# EAGLE library part ADXL330 (library Clean-Kong)
ADXL330 Board From sparkfun
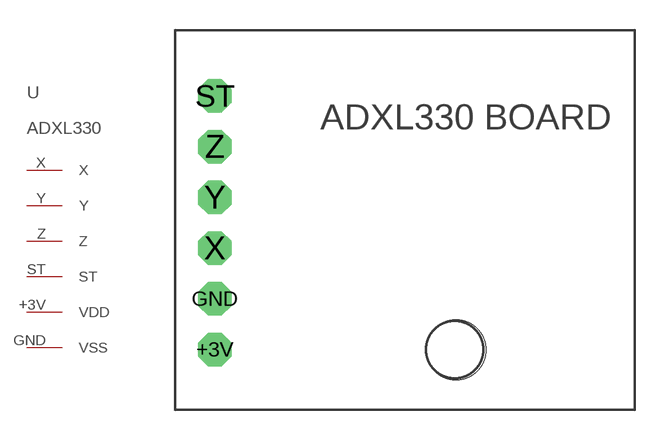
[diagram p0: symbol with the pads of ADXL330; footprint ADXL330]

Designator prefix U

## ADXL330  [ADXL330]
+3V  VDD  pwr
GND  VSS  pwr
ST  ST  in
X  X  out
Y  Y  out
Z  Z  out

## Footprint ADXL330 (pad centres in mm)
ADXL330 board From sparkfun
drill 0.8 pad 1.676 octagon: +3V 0,0; GND 0,2.54; ST 0,12.7; X 0,5.08; Y 0,7.62; Z 0,10.16
hole 3 at 12.065,0